# Altium schematic symbol library RES,78k7,0.1%,0.063W,0402.Schlib: 1 symbol
Pins are listed as number, name and electrical type; pins without a type are passive.

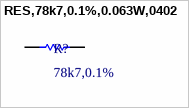
[diagram p0: symbol RES,78k7,0.1%,0.063W,0402]

## RES,78k7,0.1%,0.063W,0402
designator R?, comment 78k7,0.1%
78.7 kOhms ±0.1% 0.063W, 1/16W Chip Resistor 0402 (1005 Metric) Thin Film
pins: 1, 2